# EAGLE library part DUAL_INVERTER (library logic)
UHS Dual Inverter
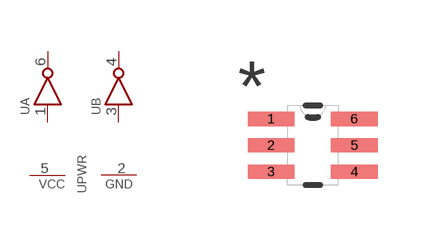
[diagram p0: symbol with the pads of SC-70-6; footprint SC-70-6]

Designator prefix U; gates A=INVERTER B=INVERTER PWR=PWR

## DUAL_INVERTER (MPN: NC7WZ14P6X; OC_FARNELL: 1417668; OC_NEWARK: 58K2001; PACKAGE: SC-70-6; SUPPLIER: FAIRCHILD SEMICONDUCTOR)  [SC-70-6]
1  A:A  in
2  PWR:GND  pwr
3  B:A  in
4  B:Y  out
5  PWR:VCC  pwr
6  A:Y  out

## Footprint SC-70-6 (pad centres in mm)
smd 1.168 x 0.356: 1 -1.041,0.66; 2 -1.041,0; 3 -1.041,-0.66; 4 1.041,-0.66; 5 1.041,0; 6 1.041,0.66